# Altium footprint library SIGFOX-PCB-RULER.PcbLib: 49 footprints (part 4 of 4)
Each footprint in its own frame and in the unit in brackets; x right, y up, seen from the top. Pads: shape width x height; smd on the part's side, far side on the other; paste and mask are expansions set on the pad; w line width, h text height; cw(c..) or ccw(c..) is an arc to the next point about the centre after c.
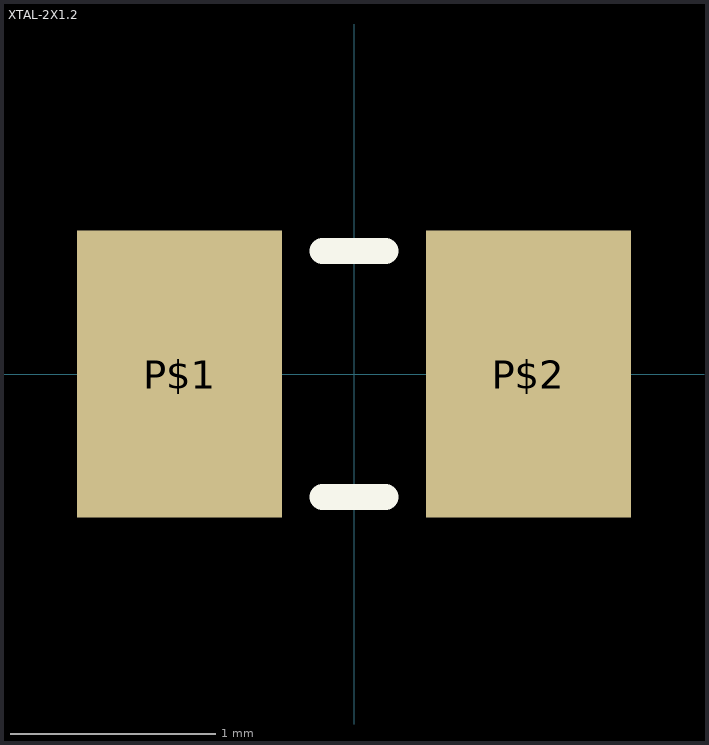
[diagram p3: the footprint, top view; thin cyan lines are the x and y axes]

## XTAL-2X1.2 [mm]
pads (2):
  rect 1x1.4 smd: P$1(-0.85,0) P$2(0.85,0)
Top Overlay:
  lines w0.127: -0.152,-0.6 0.152,-0.6 ; -0.152,0.6 0.152,0.6